# Altium schematic symbol library Antenna.SchLib: 1 symbol
Pins are listed as number, name and electrical type; pins without a type are passive.

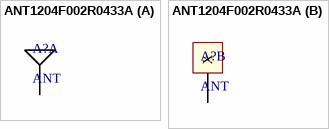
[diagram p0: symbol ANT1204F002R0433A]

## ANT1204F002R0433A
designator A?, comment ANT
ANT1204F002R0433A
footprint 433MHz_Antenna (ANT1204F002R0433A)
part A pins: 1 ANT
part B pins: 2 X